# EAGLE library part MPU-6050 (library SparkFun-Breakouts)
MPU-6050 Breakout board from SparkFun SFU:SEN-11028
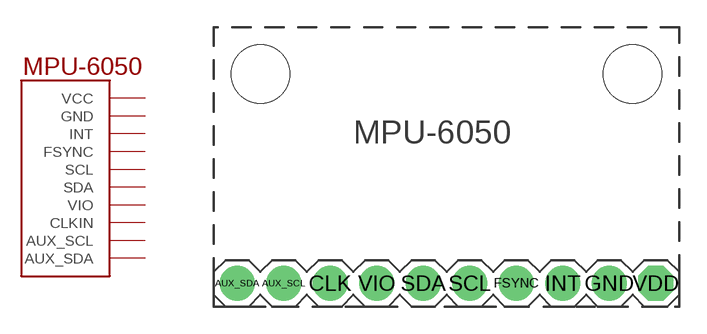
[diagram p0: symbol with the pads of MPU-6050; footprint MPU-6050]

Designator prefix -

## MPU-6050  [MPU-6050]
AUX_SCL  AUX_SCL  out
AUX_SDA  AUX_SDA
CLK  CLKIN  in
FSYNC  FSYNC  in
GND  GND  pwr
INT  INT  out
SCL  SCL  out
SDA  SDA
VDD  VCC  pwr
VIO  VIO  pwr

## Footprint MPU-6050 (pad centres in mm)
drill 1 pad 1.93: AUX_SCL 3.81,1.27; AUX_SDA 1.27,1.27; CLK 6.35,1.27; FSYNC 16.51,1.27; GND 21.59,1.27; INT 19.05,1.27; SCL 13.97,1.27; SDA 11.43,1.27; VIO 8.89,1.27
drill 1 pad 1.93 octagon: VDD 24.13,1.27
hole 3.2 at 2.54,12.7
hole 3.2 at 22.86,12.7